# EAGLE library part TT6755D-144M (library NewSDR)
Temwell Design RF Helical Band Pass Filter Fc = 144MHz
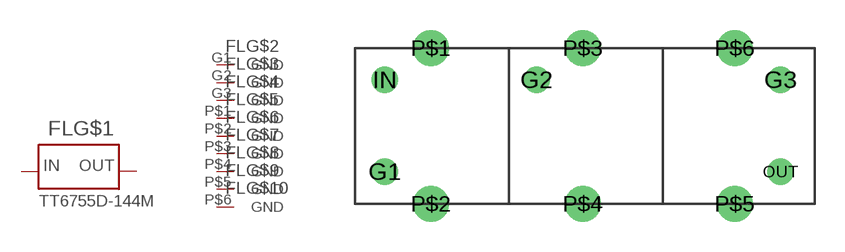
[diagram p105: symbol with the pads of 7H3D; footprint 7H3D]

Designator prefix FL; gates G$1=BOX_FILTER G$2=PIN_GND G$3=PIN_GND G$4=PIN_GND G$5=PIN_GND G$6=PIN_GND G$7=PIN_GND G$8=PIN_GND G$9=PIN_GND G$10=PIN_GND

## TT6755D-144M  [7H3D]
G1  G$2:GND  pwr
G2  G$3:GND  pwr
G3  G$4:GND  pwr
IN  G$1:IN  in
OUT  G$1:OUT  out
P$1  G$5:GND  pwr
P$2  G$6:GND  pwr
P$3  G$7:GND  pwr
P$4  G$8:GND  pwr
P$5  G$9:GND  pwr
P$6  G$10:GND  pwr

## Footprint 7H3D (pad centres in mm)
Temwell Design - RF Herical Band Pass Filter Package 7H3D
drill 0.8: G1 -9.9,-2.3; G2 -2.3,2.3; G3 9.9,2.3; IN -9.9,2.3; OUT 9.9,-2.3
drill 1.2: P$1 -7.6,3.9; P$2 -7.6,-3.9; P$3 0,3.9; P$4 0,-3.9; P$5 7.6,-3.9; P$6 7.6,3.9